# Altium schematic symbol library Schlib1.SchLib: 16 symbols
Pins are listed as number, name and electrical type; pins without a type are passive.

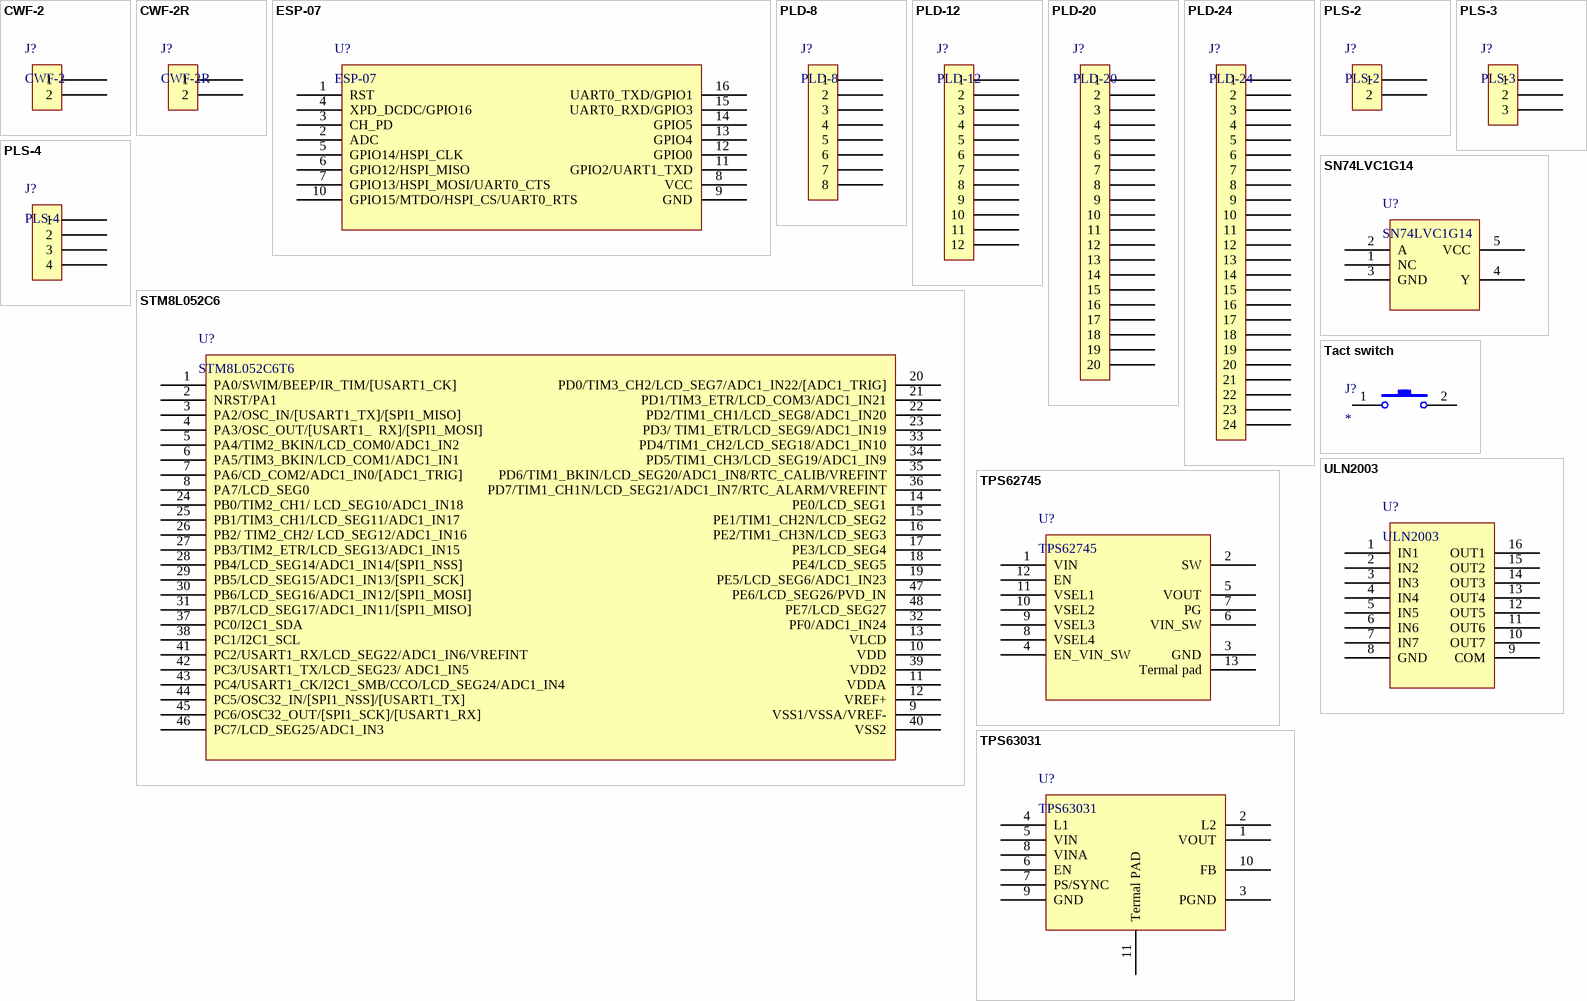
[diagram p0: symbols CWF-2 to ULN2003]

## CWF-2
designator J?
Вилка на плату CWF-2, прямая; Manufacturer: Connfly; Model: DS1069-2MVW6X; Part number: DS1069-2MVW6X
footprint DS1069-2MVW6X
pins: 1, 2

## CWF-2R
designator J?
Вилка на плату CWF-2R, угловая; Manufacturer: Connfly; Model: DS1069-2MRW6XB; Part number: DS1069-2MRW6XB
footprint DS1069-2MRW6XB
pins: 1, 2

## ESP-07
designator U?
WiFi module; Model: ESP-07
footprint ESP-07 (Wifi Module)
pins: 1 RST, 2 ADC, 3 CH_PD, 4 XPD_DCDC/GPIO16, 5 GPIO14/HSPI_CLK, 6 GPIO12/HSPI_MISO, 7 GPIO13/HSPI_MOSI/UART0_CTS, 8 VCC, 9 GND, 10 GPIO15/MTDO/HSPI_CS/UART0_RTS, 11 GPIO2/UART1_TXD, 12 GPIO0, 13 GPIO4, 14 GPIO5, 15 UART0_RXD/GPIO3, 16 UART0_TXD/GPIO1

## PLD-8
designator J?
Вилка штыревая PLD-8, прямая; Manufacturer: Connfly; Model: PLD-8
footprint PLD-8
pins: 1, 2, 3, 4, 5, 6, 7, 8

## PLD-12
designator J?
Вилка штыревая PLD-12, прямая; Manufacturer: Connfly; Model: PLD-12
footprint PLD-12
pins: 1, 2, 3, 4, 5, 6, 7, 8, 9, 10, 11, 12

## PLD-20
designator J?
footprint PLD-20
pins: 1, 2, 3, 4, 5, 6, 7, 8, 9, 10, 11, 12, 13, 14, 15, 16, 17, 18, 19, 20

## PLD-24
designator J?
footprint PLD-24
pins: 1, 2, 3, 4, 5, 6, 7, 8, 9, 10, 11, 12, 13, 14, 15, 16, 17, 18, 19, 20, 21, 22, 23, 24

## PLS-2
designator J?
footprint PLS-2
pins: 1, 2

## PLS-3
designator J?
Connector
footprint PLS-3
pins: 1, 2, 3

## PLS-4
designator J?
footprint PLS-4 D
pins: 1, 2, 3, 4

## SN74LVC1G14
designator U?
Single SchmittT-Trigger Inverter; Part number: SN74LVC1G14DBVR; Manufacturer: Texas Instruments; Package: SOT-23-5; Datasheet: http://www.ti.com/lit/ds/symlink/sn74lvc1g14.pdf; Model: SN74LVC1G14
footprint SOT23-5 (SOT23, 5-Leads, Body 2,90x2,80mm, Pitch 0,95mm, IPC Medium Density)
pins: 1 NC, 2 A, 3 GND, 4 Y, 5 VCC

## STM8L052C6
designator U?, comment STM8L052C6T6
MCU; Manufacturer: STMicroelectronics; Model: STM8L052C6T6; Part number: STM8L052C6T6; Datasheet: https://www.st.com/content/ccc/resource/technical/document/datasheet/05/b6/38/25/7d/c5/4b/cd/DM00057687.pdf/files/DM00057687.pdf/jcr:content/translations/en.DM00057687.pdf; Package: 48-LQFP (7x7)
footprint LQFP-48 (TSQFP, 48-Leads, Body 9,2x9,2mm (max), Pitch 0,50mm, IPC Medium Density)
pins: 1 PA0/SWIM/BEEP/IR_TIM/[USART1_CK], 2 NRST/PA1, 3 PA2/OSC_IN/[USART1_TX]/[SPI1_MISO], 4 PA3/OSC_OUT/[USART1_  RX]/[SPI1_MOSI], 5 PA4/TIM2_BKIN/LCD_COM0/ADC1_IN2, 6 PA5/TIM3_BKIN/LCD_COM1/ADC1_IN1, 7 PA6/CD_COM2/ADC1_IN0/[ADC1_TRIG], 8 PA7/LCD_SEG0, 9 VSS1/VSSA/VREF-, 10 VDD, 11 VDDA, 12 VREF+, 13 VLCD, 14 PE0/LCD_SEG1, 15 PE1/TIM1_CH2N/LCD_SEG2, 16 PE2/TIM1_CH3N/LCD_SEG3, 17 PE3/LCD_SEG4, 18 PE4/LCD_SEG5, 19 PE5/LCD_SEG6/ADC1_IN23, 20 PD0/TIM3_CH2/LCD_SEG7/ADC1_IN22/[ADC1_TRIG], 21 PD1/TIM3_ETR/LCD_COM3/ADC1_IN21, 22 PD2/TIM1_CH1/LCD_SEG8/ADC1_IN20, 23 PD3/ TIM1_ETR/LCD_SEG9/ADC1_IN19, 24 PB0/TIM2_CH1/ LCD_SEG10/ADC1_IN18, 25 PB1/TIM3_CH1/LCD_SEG11/ADC1_IN17, 26 PB2/ TIM2_CH2/ LCD_SEG12/ADC1_IN16, 27 PB3/TIM2_ETR/LCD_SEG13/ADC1_IN15, 28 PB4/LCD_SEG14/ADC1_IN14/[SPI1_NSS], 29 PB5/LCD_SEG15/ADC1_IN13/[SPI1_SCK], 30 PB6/LCD_SEG16/ADC1_IN12/[SPI1_MOSI], 31 PB7/LCD_SEG17/ADC1_IN11/[SPI1_MISO], 32 PF0/ADC1_IN24, 33 PD4/TIM1_CH2/LCD_SEG18/ADC1_IN10, 34 PD5/TIM1_CH3/LCD_SEG19/ADC1_IN9, 35 PD6/TIM1_BKIN/LCD_SEG20/ADC1_IN8/RTC_CALIB/VREFINT, 36 PD7/TIM1_CH1N/LCD_SEG21/ADC1_IN7/RTC_ALARM/VREFINT, 37 PC0/I2C1_SDA, 38 PC1/I2C1_SCL, 39 VDD2, 40 VSS2, 41 PC2/USART1_RX/LCD_SEG22/ADC1_IN6/VREFINT, 42 PC3/USART1_TX/LCD_SEG23/ ADC1_IN5, 43 PC4/USART1_CK/I2C1_SMB/CCO/LCD_SEG24/ADC1_IN4, 44 PC5/OSC32_IN/[SPI1_NSS]/[USART1_TX], 45 PC6/OSC32_OUT/[SPI1_SCK]/[USART1_RX], 46 PC7/LCD_SEG25/ADC1_IN3, 47 PE6/LCD_SEG26/PVD_IN, 48 PE7/LCD_SEG27

## Tact switch
designator J?
Tact switch; Model: *
footprint FSM4JH
footprint FSM16JH
pins: 1 COMMON1, 2 NO1

## TPS62745
designator U?
DC/DC step down; Part number: TPS62745DSST; Manufacturer: Texas Instruments; Package: 12-WSON (3x2); Datasheet: http://www.ti.com/lit/ds/symlink/tps62745.pdf; Model: TPS62745
footprint 12-WSON (3x2)
pins: 1 VIN, 2 SW, 3 GND, 4 EN_VIN_SW, 5 VOUT, 6 VIN_SW, 7 PG, 8 VSEL4, 9 VSEL3, 10 VSEL2, 11 VSEL1, 12 EN, 13 Termal pad

## TPS63031
designator U?
footprint DSK-10
pins: 1 VOUT, 2 L2, 3 PGND, 4 L1, 5 VIN, 6 EN, 7 PS/SYNC, 8 VINA, 9 GND, 10 FB, 11 Termal PAD

## ULN2003
designator U?
Seven Darlington array
footprint SO16 (SOIC, 16-Leads, Body 9,90x3,90mm, Pitch 1,27mm, IPC Medium Density)
pins: 1 IN1, 2 IN2, 3 IN3, 4 IN4, 5 IN5, 6 IN6, 7 IN7, 8 GND, 9 COM, 10 OUT7, 11 OUT6, 12 OUT5, 13 OUT4, 14 OUT3, 15 OUT2, 16 OUT1